# Altium schematic symbol library AutoTimer.SchLib: 22 symbols
Pins are listed as number, name and electrical type; pins without a type are passive.

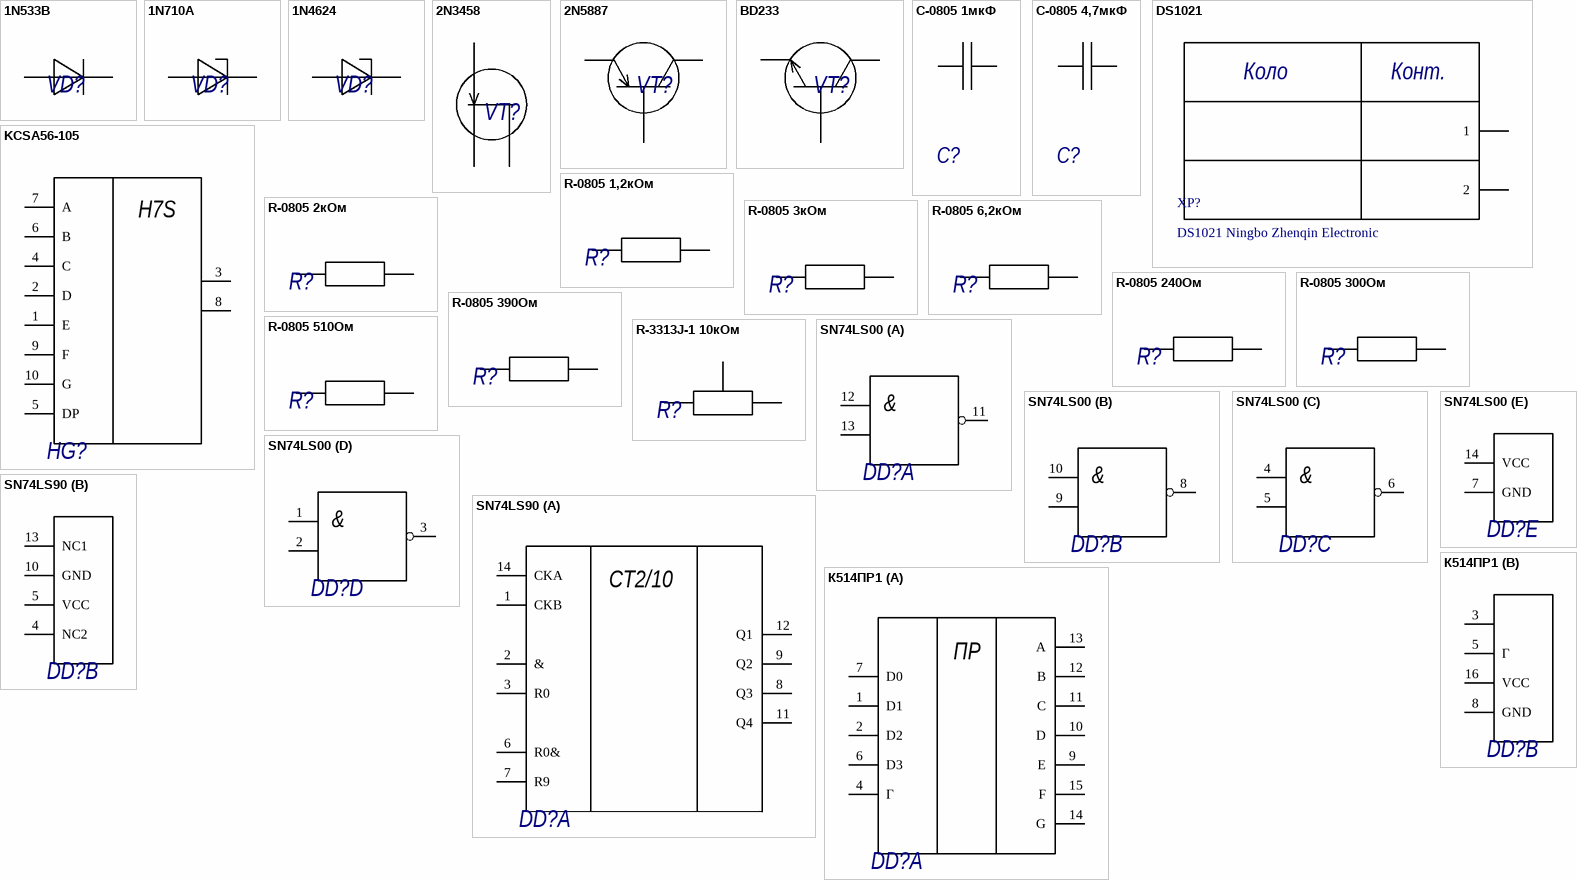
[diagram p0: symbols 1N533B to К514ПР1]

## 1N533B
designator VD?, comment 1N533B MICROSEMI  (value not drawn)
T-18; Name: 1N533B; Manufacturer: MICROSEMI; ComponentLink1Description: datasheet; ComponentLink1URL: http://www.datasheetcatalog.com/datasheets_pdf/1/N/5/3/1N5333B.shtml
footprint T-18
pins: 1, 2

## 1N710A
designator VD?, comment 1N710A MICROCHIP  (value not drawn)
DO-35; Name: 1N710A; Manufacturer: MICROCHIP; ComponentLink1Description: datasheet; ComponentLink1URL: https://datasheetspdf.com/pdf/569488/CentralSemiconductor/1N710A/1
footprint DO-35
pins: 1, 2

## 1N4624
designator VD?, comment 1N4624 BSC  (value not drawn)
DO-213; Name: 1N4624; Manufacturer: BSC; ComponentLink1Description: datasheet; ComponentLink1URL: https://datasheetspdf.com/pdf/969296/CENTRALSEMICONDUCTOR/1N4624/1
footprint DO-213
pins: 1, 2

## 2N3458
designator VT?, comment 2N3458 MOTOROLA  (value not drawn)
SOT23; Name: 2N3458; Manufacturer: MOTOROLA; ComponentLink1Description: datasheet; ComponentLink1URL: https://datasheetspdf.com/datasheet/2N3458.html
footprint SOT23 (SOT23, 3-Leads, Body 2,86x2,45mm, Pitch 0,95mm, IPC Medium Density)
pins: 1 Source, 2 Drain, 3 Gate

## 2N5887
designator VT?, comment 2N5887 ETC  (value not drawn)
TO66; Name: 2N5887; Manufacturer: ETC; ComponentLink1Description: datasheet; ComponentLink1URL: https://datasheetspdf.com/datasheet/2N5891.html
footprint TO66
pins: 1, 2, 3

## BD233
designator VT?, comment BD233 SavantIC  (value not drawn)
TO-126; Name: BD233; Manufacturer: SavantIC; ComponentLink1Description: datasheet; ComponentLink1URL: https://datasheetspdf.com/pdf-file/641918/SavantIC/BD233/1
footprint ТО-126
pins: 1, 2, 3

## C-0805 1мкФ
designator C?, comment С-0805 50 В 1 мкФ 10% X7R KEMET  (value not drawn)
0805; Value: 1 мкФ; Voltage: 50 В; Package: С-0805; Temp_Coef: X7R; Tolerance: 10%; Manufacturer: KEMET; ComponentLink1Description: New link; ComponentLink1URL: https://electronoff.ua/good/kondensator-keramicheskij-1206-1uf-50v-x7r-10-100sht.php
footprint 0805
pins: 1, 2

## C-0805 4,7мкФ
designator C?, comment С-0805 50 В 4,7 мкФ 10% X7R KEMET  (value not drawn)
0805; Value: 4,7 мкФ; Voltage: 50 В; Package: С-0805; Temp_Coef: X7R; Tolerance: 10%; Manufacturer: KEMET; ComponentLink1Description: New link; ComponentLink1URL: https://electronoff.ua/good/kondensator-keramicheskij-0805-4-7uf-50v-x7r-10-100sht.php
footprint 0805
pins: 1, 2

## DS1021
designator XP?, comment DS1021 Ningbo Zhenqin Electronic  (no BOM)
PLS-2_1x2; Manufacturer: Ningbo Zhenqin Electronic; Name: DS1021
footprint PLS-2
pins: 1, 2
text: Коло; Конт.

## KCSA56-105
designator HG?, comment KCSA56-105 Kingbright  (value not drawn)
Manufacturer: Kingbright; Name: KCSA56-105; ComponentLink1Description: datasheet; ComponentLink1URL: http://www.kosmodrom.com.ua/pdf/KCSA56-105.pdf
footprint KCSA56-105_FOOTPRINT
pins: 1 E, 2 D, 3, 4 C, 5 DP, 6 B, 7 A, 8, 9 F, 10 G
text: H7S

## R-0805 1,2кОм
designator R?, comment R-0805 0,125 Вт 1,2 кОм 5% Yageo  (value not drawn)
Value: 1,2 кОм; Power: 0,125 Вт; Tolerance: 5%; Manufacturer: Yageo; Package: R-0805
footprint 0805
pins: 1, 2

## R-0805 2кОм
designator R?, comment R-0805 0,125 Вт 2 кОм 5% Yageo  (value not drawn)
Value: 2 кОм; Power: 0,125 Вт; Tolerance: 5%; Manufacturer: Yageo; Package: R-0805
footprint 0805
pins: 1, 2

## R-0805 3кОм
designator R?, comment R-0805 0,125 Вт 3 кОм 5% Yageo  (value not drawn)
Value: 3 кОм; Power: 0,125 Вт; Tolerance: 5%; Manufacturer: Yageo; Package: R-0805
footprint 0805
pins: 1, 2

## R-0805 6,2кОм
designator R?, comment R-0805 0,125 Вт 6,2 кОм 5% Yageo  (value not drawn)
Value: 6,2 кОм; Power: 0,125 Вт; Tolerance: 5%; Manufacturer: Yageo; Package: R-0805
footprint 0805
pins: 1, 2

## R-0805 240Ом
designator R?, comment R-0805 0,125 Вт 240Ом 5% Yageo  (value not drawn)
Value: 240Ом; Power: 0,125 Вт; Tolerance: 5%; Manufacturer: Yageo; Package: R-0805
footprint 0805
pins: 1, 2

## R-0805 300Ом
designator R?, comment R-0805 0,125 Вт 300 Ом 5% Yageo  (value not drawn)
Value: 300 Ом; Power: 0,125 Вт; Tolerance: 5%; Manufacturer: Yageo; Package: R-0805
footprint 0805
pins: 1, 2

## R-0805 390Ом
designator R?, comment R-0805 0,125 Вт 390 Ом 5% Yageo  (value not drawn)
Value: 390 Ом; Power: 0,125 Вт; Tolerance: 5%; Manufacturer: Yageo; Package: R-0805
footprint 0805
pins: 1, 2

## R-0805 510Ом
designator R?, comment R-0805 0,125 Вт 510 Ом 5% Yageo  (value not drawn)
Value: 510 Ом; Power: 0,125 Вт; Tolerance: 5%; Manufacturer: Yageo; Package: R-0805
footprint 0805
pins: 1, 2

## R-3313J-1 10кОм
designator R?, comment 3313J-1 0,125 Вт 10 кОм 20% Mouzer  (value not drawn)
Value: 10 кОм; Power: 0,125 Вт; Tolerance: 20%; Manufacturer: Mouzer; Package: 3313J-1; ComponentLink1Description: New link; ComponentLink1URL: https://eu.mouser.com/datasheet/2/54/3313-776425.pdf
footprint R-3313J-1 FOOTPRINT
pins: 1, 2, 3

## SN74LS00
designator DD?, comment SN74LS00 Texas Insturments  (value not drawn)
Manufacturer: Texas Insturments; Name: SN74LS00; ComponentLink1Description: datasheet; ComponentLink1URL: file:///C:/Users/aleks/Downloads/Telegram%20Desktop/sn7400-sp.pdf
footprint SN74LS00 SN74LS90 FOOTPRINT (SOIC, 14-Leads, Body 8,65x3,90mm, Pitch 1,27mm, IPC Medium Density)
part A pins: 11, 12, 13
part B pins: 8, 9, 10
part C pins: 4, 5, 6
part D pins: 1, 2, 3
part E pins: 7 GND, 14 VCC
part A text: &
part B text: &
part C text: &
part D text: &

## SN74LS90
designator DD?, comment SN74LS90 Texas Insturments  (value not drawn)
Manufacturer: Texas Insturments; Name: SN74LS90; ComponentLink1Description: datasheet; ComponentLink1URL: file:///C:/Users/aleks/Downloads/Telegram%20Desktop/SN7490AN.pdf
footprint SN74LS00 SN74LS90 FOOTPRINT (SOIC, 14-Leads, Body 8,65x3,90mm, Pitch 1,27mm, IPC Medium Density)
part A pins: 1 CKB, 2 &, 3 R0, 6 R0&, 7 R9, 8 Q3, 9 Q2, 11 Q4, 12 Q1, 14 CKA
part B pins: 4 NC2, 5 VCC, 10 GND, 13 NC1
part A text: CT2/10

## К514ПР1
designator DD?, comment К514ПР1 *  (value not drawn)
Manufacturer: *; Name: К514ПР1; ComponentLink1Description: datasheet; ComponentLink1URL: http://ic-info.ru/upload/iblock/20e/514%D0%9F%D0%A01.pdf
footprint К514ПР1 FOOTPRINT
part A pins: 1 D1, 2 D2, 4 Г, 6 D3, 7 D0, 9 E, 10 D, 11 С, 12 B, 13 А, 14 G, 15 F
part B pins: 3, 5 Г, 8 GND, 16 VCC
part A text: ПР